# EAGLE library part STM32L431KCU6 (library circuit_tree)
IC
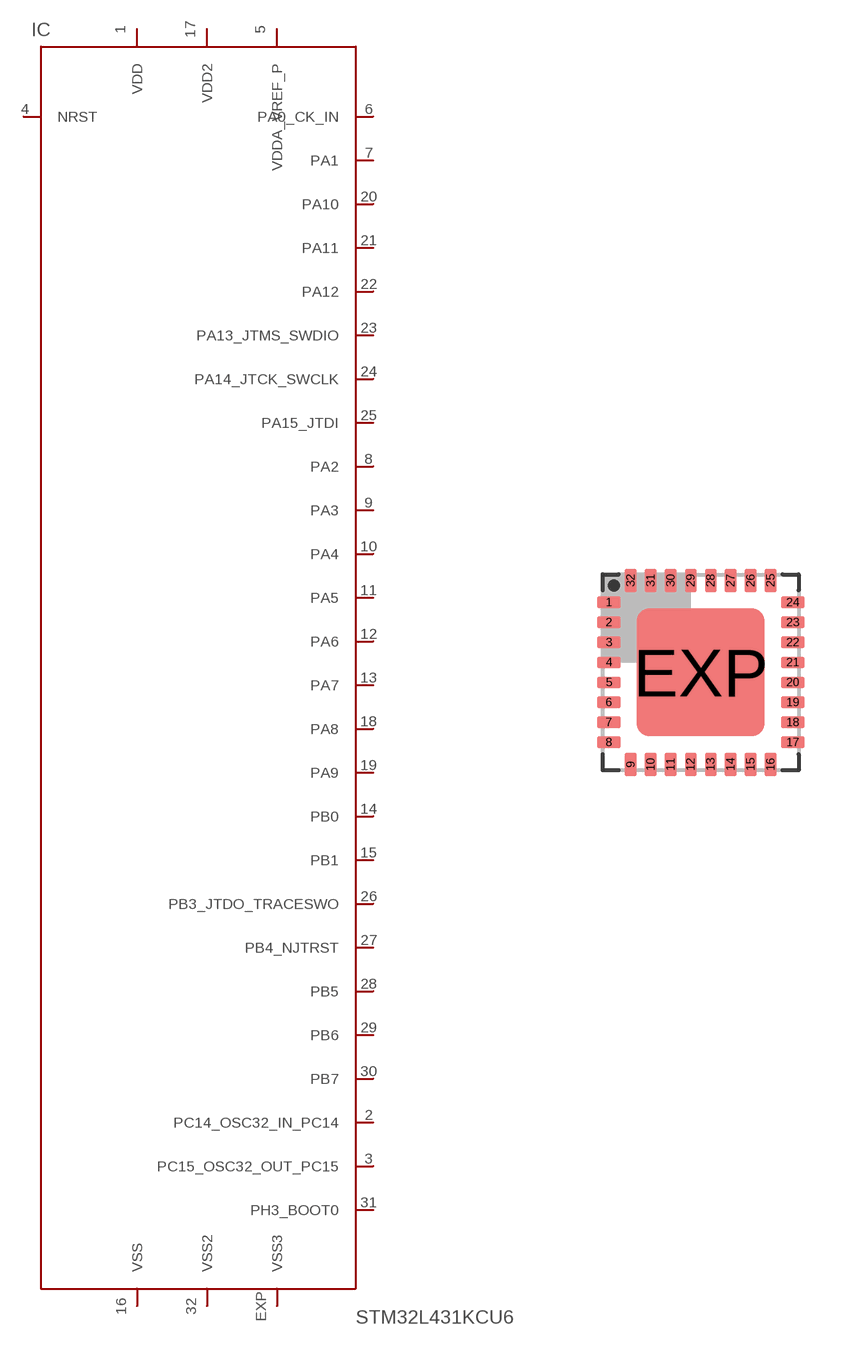
[diagram p3: symbol with the pads of QFN-32; footprint QFN-32]

Designator prefix IC

## STM32L431KCU6  [QFN-32]
1  VDD  pas
2  PC14_OSC32_IN_PC14  pas
3  PC15_OSC32_OUT_PC15  pas
4  NRST  pas
5  VDDA_VREF_P  pas
6  PA0_CK_IN  pas
7  PA1  pas
8  PA2  pas
9  PA3  pas
10  PA4  pas
11  PA5  pas
12  PA6  pas
13  PA7  pas
14  PB0  pas
15  PB1  pas
16  VSS  pas
17  VDD2  pas
18  PA8  pas
19  PA9  pas
20  PA10  pas
21  PA11  pas
22  PA12  pas
23  PA13_JTMS_SWDIO  pas
24  PA14_JTCK_SWCLK  pas
25  PA15_JTDI  pas
26  PB3_JTDO_TRACESWO  pas
27  PB4_NJTRST  pas
28  PB5  pas
29  PB6  pas
30  PB7  pas
31  PH3_BOOT0  pas
32  VSS2  pas
EXP  VSS3  pas

## Footprint QFN-32 (pad centres in mm)
smd 0.6 x 0.3: 1 -2.3,1.75; 2 -2.3,1.25; 3 -2.3,0.75; 4 -2.3,0.25; 5 -2.3,-0.25; 6 -2.3,-0.75; 7 -2.3,-1.25; 8 -2.3,-1.75; 17 2.3,-1.75; 18 2.3,-1.25; 19 2.3,-0.75; 20 2.3,-0.25; 21 2.3,0.25; 22 2.3,0.75; 23 2.3,1.25; 24 2.3,1.75
smd 0.3 x 0.6: 9 -1.75,-2.3; 10 -1.25,-2.3; 11 -0.75,-2.3; 12 -0.25,-2.3; 13 0.25,-2.3; 14 0.75,-2.3; 15 1.25,-2.3; 16 1.75,-2.3; 25 1.75,2.3; 26 1.25,2.3; 27 0.75,2.3; 28 0.25,2.3; 29 -0.25,2.3; 30 -0.75,2.3; 31 -1.25,2.3; 32 -1.75,2.3
smd 3.2 x 3.2: EXP 0,0